# Altium schematic symbol library ZIJIAN.SchLib: 26 symbols
Pins are listed as number, name and electrical type; pins without a type are passive.

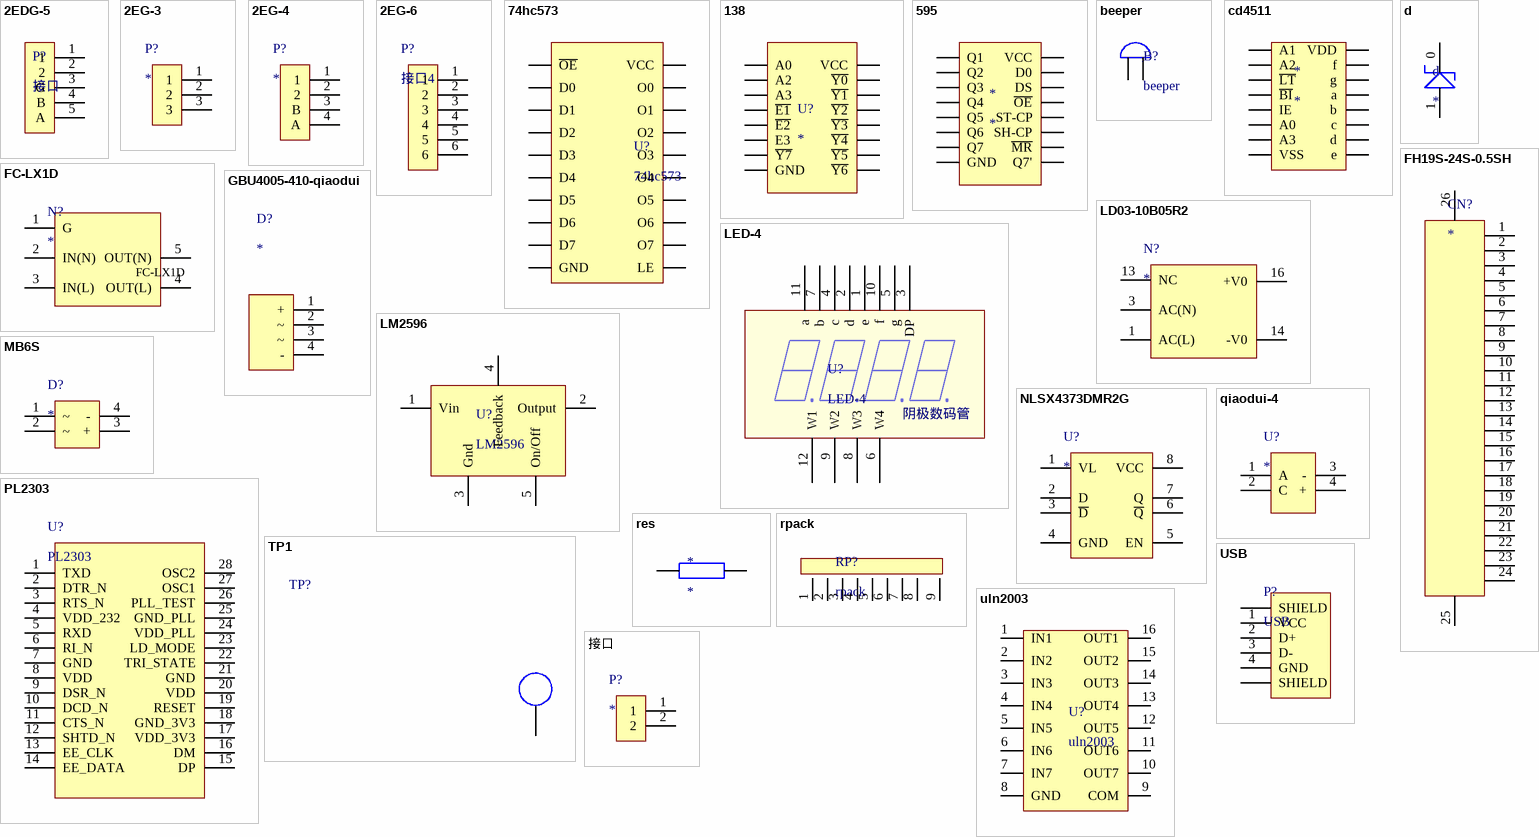
[diagram p0: symbols 2EDG-5 to 接口]

## 2EDG-5
designator P?, comment 接口
pins: 1, 2, 3 G, 4 B, 5 A

## 2EG-3
designator P?
pins: 1, 2, 3

## 2EG-4
designator P?
pins: 1, 2, 3 B, 4 A

## 2EG-6
designator P?, comment 接口4
pins: 1, 2, 3, 4, 5, 6

## 74hc573
designator U?
pins: 1 ~{OE}, 2 D0, 3 D1, 4 D2, 5 D3, 6 D4, 7 D5, 8 D6, 9 D7, 10 GND, 11 LE, 12 O7, 13 O0, 14 O1, 15 O2, 16 O3, 17 O4, 18 O5, 19 O6, 20 VCC

## 138
designator U?
pins: 1 A0, 2 A2, 3 A3, 4 ~{E1}, 5 ~{E2}, 6 E3, 7 ~{Y7}, 8 GND, 9 ~{Y6}, 10 ~{Y5}, 11 ~{Y4}, 12 ~{Y3}, 13 ~{Y2}, 14 ~{Y1}, 15 ~{Y0}, 16 VCC

## 595
designator *
pins: 1 Q1, 2 Q2, 3 Q3, 4 Q4, 5 Q5, 6 Q6, 7 Q7, 8 GND, 9 Q7', 10 ~{MR}, 11 SH-CP, 12 ST-CP, 13 ~{OE}, 14 DS, 15 D0, 16 VCC

## beeper
designator B?
pins: 1, 2

## cd4511
designator *
pins: 0 A1, 1 A2, 2 ~{LT}, 3 ~{BI}, 4 A0, 5 A3, 6 VSS, 7 IE, 8 e, 9 d, 10 c, 11 b, 12 a, 13 g, 14 f, 14 VDD

## d
designator d
pins: 0, 1

## FC-LX1D
designator N?
pins: 1 G, 2 IN(N), 3 IN(L), 4 OUT(L), 5 OUT(N)

## FH19S-24S-0.5SH
designator CN?
pins: 1, 2, 3, 4, 5, 6, 7, 8, 9, 10, 11, 12, 13, 14, 15, 16, 17, 18, 19, 20, 21, 22, 23, 24, 25, 26

## GBU4005-410-qiaodui
designator D?
pins: 1 +, 2 ~, 3 ~, 4 -

## LD03-10B05R2
designator N?
pins: 1 AC(L), 3 AC(N), 13 NC, 14 -V0, 16 +V0

## LED-4
designator U?
footprint SHUMAXIAO_QYZ-Z
pins: 1 e, 2 d, 3 DP, 4 c, 5 g, 6 W4, 7 b, 8 W3, 9 W2, 10 f, 11 a, 12 W1
text: 阴极数码管

## LM2596
designator U?
pins: 1 Vin, 2 Output, 3 Gnd, 4 Feedback, 5 On/Off

## MB6S
designator D?
pins: 1 ~, 2 ~, 3 +, 4 -

## NLSX4373DMR2G
designator U?
pins: 1 VL, 2 D, 3 ~{D}, 4 GND, 5 EN, 6 ~{Q}, 7 Q, 8 VCC

## PL2303
designator U?
pins: 1 TXD, 2 DTR_N, 3 RTS_N, 4 VDD_232, 5 RXD, 6 RI_N, 7 GND, 8 VDD, 9 DSR_N, 10 DCD_N, 11 CTS_N, 12 SHTD_N, 13 EE_CLK, 14 EE_DATA, 15 DP, 16 DM, 17 VDD_3V3, 18 GND_3V3, 19 RESET, 20 VDD, 21 GND, 22 TRI_STATE, 23 LD_MODE, 24 VDD_PLL, 25 GND_PLL, 26 PLL_TEST, 27 OSC1, 28 OSC2

## qiaodui-4
designator U?
pins: 1 A, 2 C, 3 -, 4 +

## res
designator *
pins: 1, 2

## rpack
designator RP?
pins: 1, 2, 3, 4, 5, 6, 7, 8, 9

## TP1
designator TP?  (value not drawn)
pins: 0

## uln2003
designator U?
pins: 1 IN1, 2 IN2, 3 IN3, 4 IN4, 5 IN5, 6 IN6, 7 IN7, 8 GND, 9 COM, 10 OUT7, 11 OUT6, 12 OUT5, 13 OUT4, 14 OUT3, 15 OUT2, 16 OUT1

## USB
designator P?
pins: 1 VCC, 2 D+, 3 D-, 4 GND, 5 SHIELD, 6 SHIELD

## 接口
designator P?
pins: 1, 2